# Altium footprint library Analog Devices Operational Amplifiers.PcbLib: 122 footprints (part 4 of 8)
Each footprint in its own frame and in the unit in brackets; x right, y up, seen from the top. Pads: shape width x height; smd on the part's side, far side on the other; paste and mask are expansions set on the pad; w line width, h text height; cw(c..) or ccw(c..) is an arc to the next point about the centre after c.
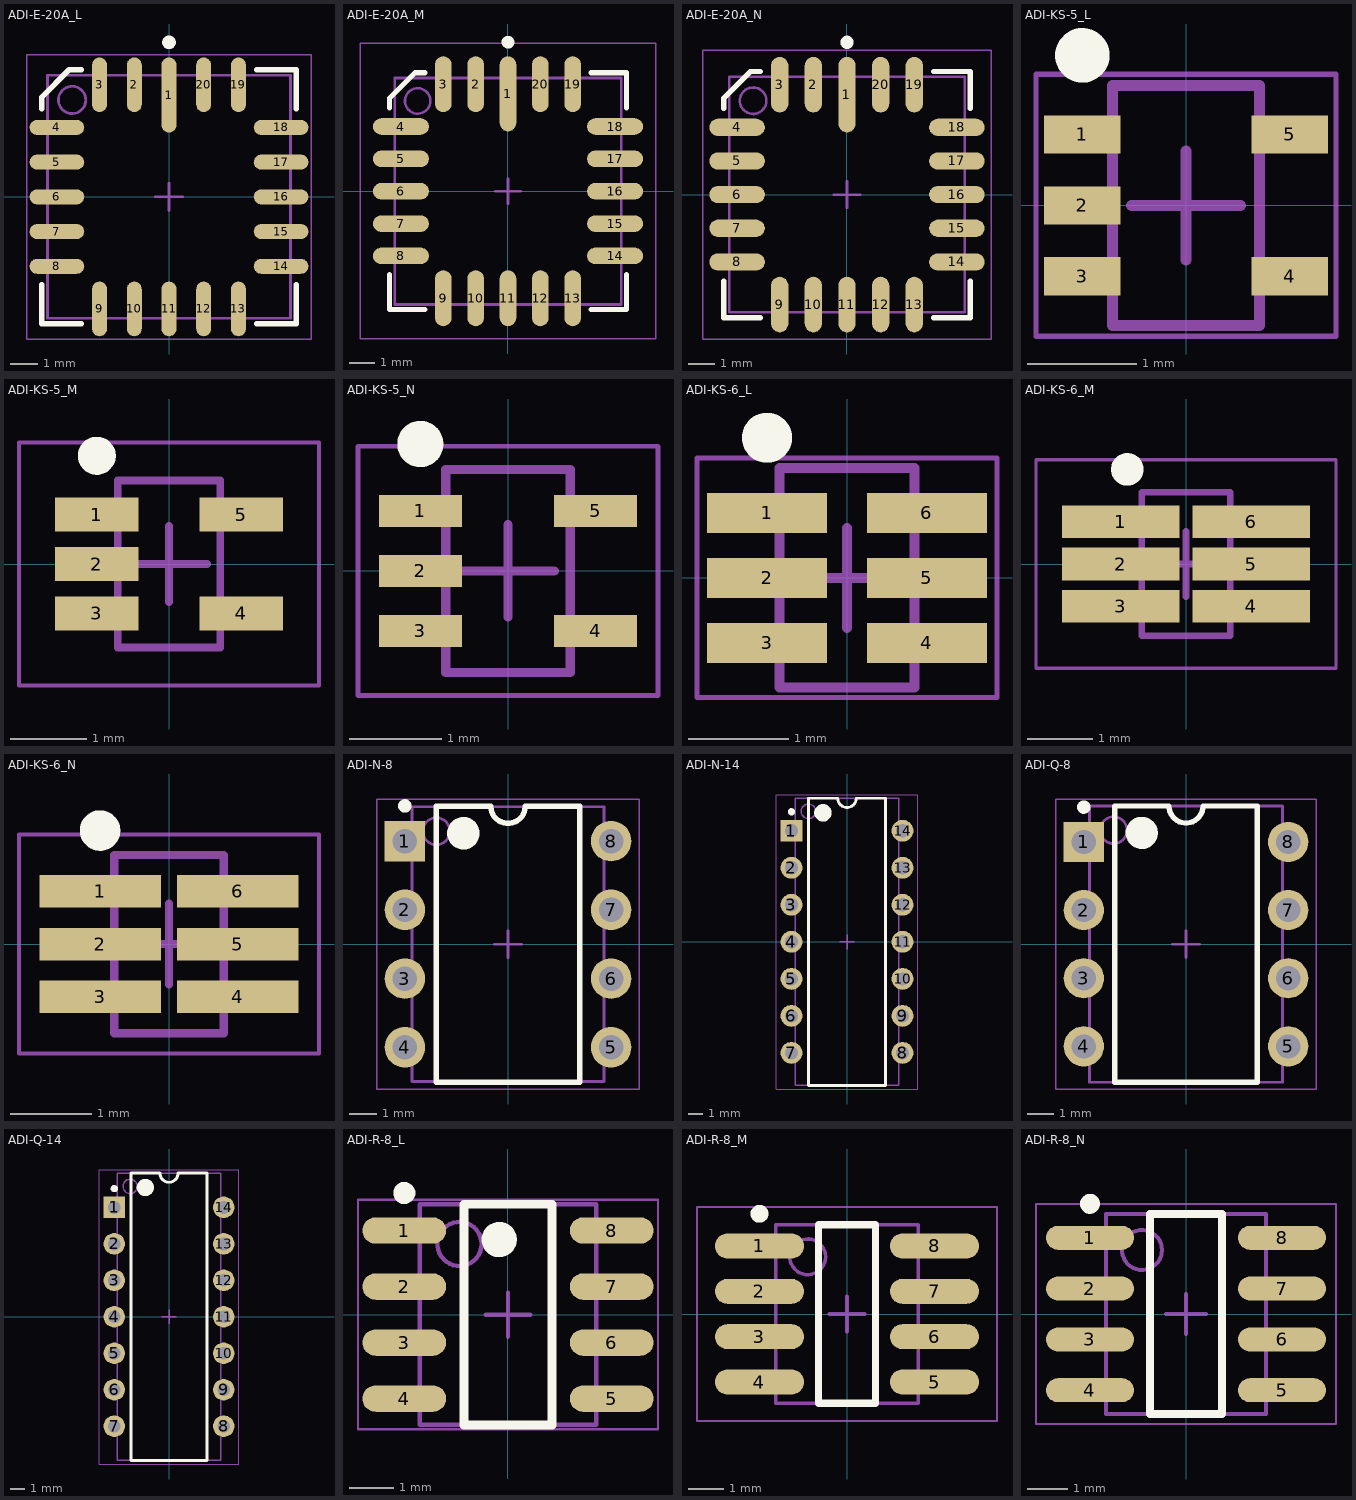
[diagram p3: the footprints below, top view; thin cyan lines are the x and y axes]

## ADI-E-20A_L [mm] "LCC, 20-Leads, Body 8.9x8.9mm, Pitch 1.27mm, IPC High Density"
height 2.54
pads (20):
  oval 0.55x2.75 smd: 1(0,3.725)
  oval 0.55x2 smd: 2(-1.27,4.1) 3(-2.54,4.1) 9(-2.54,-4.1) 10(-1.27,-4.1) 11(0,-4.1) 12(1.27,-4.1) 13(2.54,-4.1) 19(2.54,4.1) 20(1.27,4.1)
  oval 2x0.55 smd: 4(-4.1,2.54) 5(-4.1,1.27) 6(-4.1,0) 7(-4.1,-1.27) 8(-4.1,-2.54) 14(4.1,-2.54) 15(4.1,-1.27) 16(4.1,0) 17(4.1,1.27) 18(4.1,2.54)
Top Overlay:
  circle w0.25: c0,5.65 r0.125
  lines w0.2: -4.65,-3.215 -4.65,-4.65 -3.215,-4.65 ; -4.65,3.215 -4.65,3.65 -3.65,4.65 -3.215,4.65 ; 3.215,-4.65 4.65,-4.65 4.65,-3.215 ; 3.215,4.65 4.65,4.65 4.65,3.215
Mechanical 13:
  circle w0.1: c-3.545,3.545 r0.5
  lines w0.1: -4.445,-4.445 -4.445,4.445 4.445,4.445 4.445,-4.445 -4.445,-4.445
Mechanical 15:
  lines w0.05: -5.2,-5.2 -5.2,5.2 5.2,5.2 5.2,-5.2 -5.2,-5.2
  lines w0.1: -0.5,0 0.5,0 ; 0,-0.5 0,0.5
3D body: height 2.54, standoff 0, extent -4.445,-4.445 4.445,4.445

## ADI-E-20A_M [mm] "LCC, 20-Leads, Body 8.9x8.9mm, Pitch 1.27mm, IPC Low Density"
height 2.54
pads (20):
  oval 0.65x2.95 smd: 1(0,3.825)
  oval 0.65x2.2 smd: 2(-1.27,4.2) 3(-2.54,4.2) 9(-2.54,-4.2) 10(-1.27,-4.2) 11(0,-4.2) 12(1.27,-4.2) 13(2.54,-4.2) 19(2.54,4.2) 20(1.27,4.2)
  oval 2.2x0.65 smd: 4(-4.2,2.54) 5(-4.2,1.27) 6(-4.2,0) 7(-4.2,-1.27) 8(-4.2,-2.54) 14(4.2,-2.54) 15(4.2,-1.27) 16(4.2,0) 17(4.2,1.27) 18(4.2,2.54)
Top Overlay:
  circle w0.25: c0,5.85 r0.125
  lines w0.2: -4.65,-3.265 -4.65,-4.65 -3.265,-4.65 ; -4.65,3.265 -4.65,3.65 -3.65,4.65 -3.265,4.65 ; 3.265,-4.65 4.65,-4.65 4.65,-3.265 ; 3.265,4.65 4.65,4.65 4.65,3.265
Mechanical 13:
  circle w0.1: c-3.545,3.545 r0.5
  lines w0.1: -4.445,-4.445 4.445,-4.445 4.445,4.445 -4.445,4.445 -4.445,-4.445
Mechanical 15:
  lines w0.05: -5.8,-5.8 5.8,-5.8 5.8,5.8 -5.8,5.8 -5.8,-5.8
  lines w0.1: -0.5,0 0.5,0 ; 0,-0.5 0,0.5
3D body: height 2.54, standoff 0, extent -4.445,-4.445 4.445,4.445

## ADI-E-20A_N [mm] "LCC, 20-Leads, Body 8.9x8.9mm, Pitch 1.27mm, IPC Medium Density"
height 2.54
pads (20):
  oval 0.65x2.85 smd: 1(0,3.775)
  oval 0.65x2.1 smd: 2(-1.27,4.15) 3(-2.54,4.15) 9(-2.54,-4.15) 10(-1.27,-4.15) 11(0,-4.15) 12(1.27,-4.15) 13(2.54,-4.15) 19(2.54,4.15) 20(1.27,4.15)
  oval 2.1x0.65 smd: 4(-4.15,2.54) 5(-4.15,1.27) 6(-4.15,0) 7(-4.15,-1.27) 8(-4.15,-2.54) 14(4.15,-2.54) 15(4.15,-1.27) 16(4.15,0) 17(4.15,1.27) 18(4.15,2.54)
Top Overlay:
  circle w0.25: c0,5.75 r0.125
  lines w0.2: -4.65,-3.265 -4.65,-4.65 -3.265,-4.65 ; -4.65,3.265 -4.65,3.65 -3.65,4.65 -3.265,4.65 ; 3.265,-4.65 4.65,-4.65 4.65,-3.265 ; 3.265,4.65 4.65,4.65 4.65,3.265
Mechanical 13:
  circle w0.1: c-3.545,3.545 r0.5
  lines w0.1: -4.445,-4.445 4.445,-4.445 4.445,4.445 -4.445,4.445 -4.445,-4.445
Mechanical 15:
  lines w0.05: -5.45,-5.45 5.45,-5.45 5.45,5.45 -5.45,5.45 -5.45,-5.45
  lines w0.1: -0.5,0 0.5,0 ; 0,-0.5 0,0.5
3D body: height 2.54, standoff 0, extent -4.445,-4.445 4.445,4.445

## ADI-KS-5_L [mm] "SOT23, 5-Leads, Body 2x1.25mm, Pitch 0.65mm, IPC High Density"
height 1.1
pads (5):
  rect 0.7x0.35 smd: 1(-0.95,0.65) 2(-0.95,0) 3(-0.95,-0.65) 4(0.95,-0.65) 5(0.95,0.65)
Top Overlay:
  circle w0.25: c-0.95,1.375 r0.125
Mechanical 13:
  lines w0.1: -0.675,-1.1 -0.675,1.1 0.675,1.1 0.675,-1.1 -0.675,-1.1
Mechanical 15:
  lines w0.05: -1.375,-1.2 -1.375,1.2 1.375,1.2 1.375,-1.2 -1.375,-1.2
  lines w0.1: -0.5,0 0.5,0 ; 0,-0.5 0,0.5
3D body: height 1.1, standoff 0.1, extent -0.675,-1.1 0.675,1.1

## ADI-KS-5_M [mm] "SOT23, 5-Leads, Body 2x1.25mm, Pitch 0.65mm, IPC Low Density"
height 1.1
pads (5):
  rect 1.1x0.45 smd: 1(-0.95,0.65) 2(-0.95,0) 3(-0.95,-0.65) 4(0.95,-0.65) 5(0.95,0.65)
Top Overlay:
  circle w0.25: c-0.95,1.425 r0.125
Mechanical 13:
  lines w0.1: -0.675,-1.1 -0.675,1.1 0.675,1.1 0.675,-1.1 -0.675,-1.1
Mechanical 15:
  lines w0.05: -1.975,-1.6 -1.975,1.6 1.975,1.6 1.975,-1.6 -1.975,-1.6
  lines w0.1: -0.5,0 0.5,0 ; 0,-0.5 0,0.5
3D body: height 1.1, standoff 0.1, extent -0.675,-1.1 0.675,1.1

## ADI-KS-5_N [mm] "SOT23, 5-Leads, Body 2x1.25mm, Pitch 0.65mm, IPC Medium Density"
height 1.1
pads (5):
  rect 0.9x0.35 smd: 1(-0.95,0.65) 2(-0.95,0) 3(-0.95,-0.65) 4(0.95,-0.65) 5(0.95,0.65)
Top Overlay:
  circle w0.25: c-0.95,1.375 r0.125
Mechanical 13:
  lines w0.1: -0.675,-1.1 -0.675,1.1 0.675,1.1 0.675,-1.1 -0.675,-1.1
Mechanical 15:
  lines w0.05: -1.625,-1.35 -1.625,1.35 1.625,1.35 1.625,-1.35 -1.625,-1.35
  lines w0.1: -0.5,0 0.5,0 ; 0,-0.5 0,0.5
3D body: height 1.1, standoff 0.1, extent -0.675,-1.1 0.675,1.1

## ADI-KS-6_L [mm] "SOT23, 6-Leads, Body 2x1.25mm, Pitch 0.65mm, IPC High Density"
height 1.1
pads (6):
  rect 1.2x0.4 smd: 1(-0.8,0.65) 2(-0.8,0) 3(-0.8,-0.65) 4(0.8,-0.65) 5(0.8,0) 6(0.8,0.65)
Top Overlay:
  circle w0.25: c-0.8,1.4 r0.125
Mechanical 13:
  lines w0.1: -0.675,-1.1 -0.675,1.1 0.675,1.1 0.675,-1.1 -0.675,-1.1
Mechanical 15:
  lines w0.05: -1.5,-1.2 -1.5,1.2 1.5,1.2 1.5,-1.2 -1.5,-1.2
  lines w0.1: -0.5,0 0.5,0 ; 0,-0.5 0,0.5
3D body: height 1.1, standoff 0.1, extent -0.675,-1.1 0.675,1.1

## ADI-KS-6_M [mm] "SOT23, 6-Leads, Body 2x1.25mm, Pitch 0.65mm, IPC Low Density"
height 1.1
pads (6):
  rect 1.8x0.5 smd: 1(-1,0.65) 2(-1,0) 3(-1,-0.65) 4(1,-0.65) 5(1,0) 6(1,0.65)
Top Overlay:
  circle w0.25: c-0.9,1.45 r0.125
Mechanical 13:
  lines w0.1: -0.675,-1.1 0.675,-1.1 0.675,1.1 -0.675,1.1 -0.675,-1.1
Mechanical 15:
  lines w0.05: -2.3,-1.6 2.3,-1.6 2.3,1.6 -2.3,1.6 -2.3,-1.6
  lines w0.1: -0.5,0 0.5,0 ; 0,-0.5 0,0.5
3D body: height 1.1, standoff 0.1, extent -0.675,-1.1 0.675,1.1

## ADI-KS-6_N [mm] "SOT23, 6-Leads, Body 2x1.25mm, Pitch 0.65mm, IPC Medium Density"
height 1.1
pads (6):
  rect 1.5x0.4 smd: 1(-0.85,0.65) 2(-0.85,0) 3(-0.85,-0.65) 4(0.85,-0.65) 5(0.85,0) 6(0.85,0.65)
Top Overlay:
  circle w0.25: c-0.85,1.4 r0.125
Mechanical 13:
  lines w0.1: -0.675,-1.1 0.675,-1.1 0.675,1.1 -0.675,1.1 -0.675,-1.1
Mechanical 15:
  lines w0.05: -1.85,-1.35 1.85,-1.35 1.85,1.35 -1.85,1.35 -1.85,-1.35
  lines w0.1: -0.5,0 0.5,0 ; 0,-0.5 0,0.5
3D body: height 1.1, standoff 0.1, extent -0.675,-1.1 0.675,1.1

## ADI-N-8 [mm] "DIP, 8-Leads, Body 9.59x6.6mm, Pitch 2.54mm"
height 5.33
pads (8):
  rect 1.5x1.5 hole 0.9: 1(-3.81,3.81)
  round 1.5 hole 0.9: 2(-3.81,1.27) 3(-3.81,-1.27) 4(-3.81,-3.81) 5(3.81,-3.81) 6(3.81,-1.27) 7(3.81,1.27) 8(3.81,3.81)
Top Overlay:
  circle w0.25: c-3.81,5.11 r0.125
  circle w0.6: c-1.65,4.1 r0.3
  lines w0.2: -2.65,-5.1 -2.65,5.1 -0.635,5.1 ccw(c0,5.1) 0.635,5.1 2.65,5.1 2.65,-5.1 -2.65,-5.1
Mechanical 13:
  circle w0.1: c-2.65,4.175 r0.5
  lines w0.1: -3.55,-5.075 -3.55,5.075 3.55,5.075 3.55,-5.075 -3.55,-5.075
Mechanical 15:
  lines w0.05: -4.85,-5.35 -4.85,5.35 4.85,5.35 4.85,-5.35 -4.85,-5.35
  lines w0.1: -0.5,0 0.5,0 ; 0,-0.5 0,0.5
3D body: height 2.72, standoff 0, extent -3.945,3.31 -3.675,4.31
3D body: height 2.99, standoff 2.72, extent -3.945,3.31 -3.55,4.31
3D body: height 0, standoff -1.6, extent -3.945,3.45 -3.675,4.17
3D body: height 2.72, standoff 0, extent -3.945,0.77 -3.675,1.77
3D body: height 2.99, standoff 2.72, extent -3.945,0.77 -3.55,1.77
3D body: height 0, standoff -1.6, extent -3.945,0.91 -3.675,1.63
3D body: height 2.72, standoff 0, extent -3.945,-1.77 -3.675,-0.77
3D body: height 2.99, standoff 2.72, extent -3.945,-1.77 -3.55,-0.77
3D body: height 0, standoff -1.6, extent -3.945,-1.63 -3.675,-0.91
3D body: height 2.72, standoff 0, extent -3.945,-4.31 -3.675,-3.31
3D body: height 2.99, standoff 2.72, extent -3.945,-4.31 -3.55,-3.31
3D body: height 0, standoff -1.6, extent -3.945,-4.17 -3.675,-3.45
3D body: height 2.72, standoff 0, extent 3.675,-4.31 3.945,-3.31
3D body: height 2.99, standoff 2.72, extent 3.55,-4.31 3.945,-3.31
3D body: height 0, standoff -1.6, extent 3.675,-4.17 3.945,-3.45
3D body: height 2.72, standoff 0, extent 3.675,-1.77 3.945,-0.77
3D body: height 2.99, standoff 2.72, extent 3.55,-1.77 3.945,-0.77
3D body: height 0, standoff -1.6, extent 3.675,-1.63 3.945,-0.91
3D body: height 2.72, standoff 0, extent 3.675,0.77 3.945,1.77
3D body: height 2.99, standoff 2.72, extent 3.55,0.77 3.945,1.77
3D body: height 0, standoff -1.6, extent 3.675,0.91 3.945,1.63
3D body: height 2.72, standoff 0, extent 3.675,3.31 3.945,4.31
3D body: height 2.99, standoff 2.72, extent 3.55,3.31 3.945,4.31
3D body: height 0, standoff -1.6, extent 3.675,3.45 3.945,4.17
3D body: height 5.33, standoff 0.38, extent -3.55,-5.075 3.55,5.075

## ADI-N-14 [mm] "DIP, 14-Leads, Body 19.18x6.605mm, Pitch 2.54mm"
height 5.33
pads (14):
  rect 1.5x1.5 hole 0.9: 1(-3.81,7.62)
  round 1.5 hole 0.9: 2(-3.81,5.08) 3(-3.81,2.54) 4(-3.81,0) 5(-3.81,-2.54) 6(-3.81,-5.08) 7(-3.81,-7.62) 8(3.81,-7.62) 9(3.81,-5.08) 10(3.81,-2.54) 11(3.81,0) 12(3.81,2.54) 13(3.81,5.08) 14(3.81,7.62)
Top Overlay:
  circle w0.25: c-3.81,8.92 r0.125
  circle w0.6: c-1.65,8.85 r0.3
  lines w0.2: -2.65,-9.85 -2.65,9.85 -0.635,9.85 ccw(c0,9.85) 0.635,9.85 2.65,9.85 2.65,-9.85 -2.65,-9.85
Mechanical 13:
  circle w0.1: c-2.65,8.95 r0.5
  lines w0.1: -3.55,-9.85 -3.55,9.85 3.55,9.85 3.55,-9.85 -3.55,-9.85
Mechanical 15:
  lines w0.05: -4.85,-10.1 -4.85,10.1 4.85,10.1 4.85,-10.1 -4.85,-10.1
  lines w0.1: -0.5,0 0.5,0 ; 0,-0.5 0,0.5
3D body: height 2.72, standoff 0, extent -3.945,7.12 -3.675,8.12
3D body: height 2.99, standoff 2.72, extent -3.945,7.12 -3.55,8.12
3D body: height 0, standoff -1.6, extent -3.945,7.26 -3.675,7.98
3D body: height 2.72, standoff 0, extent -3.945,4.58 -3.675,5.58
3D body: height 2.99, standoff 2.72, extent -3.945,4.58 -3.55,5.58
3D body: height 0, standoff -1.6, extent -3.945,4.72 -3.675,5.44
3D body: height 2.72, standoff 0, extent -3.945,2.04 -3.675,3.04
3D body: height 2.99, standoff 2.72, extent -3.945,2.04 -3.55,3.04
3D body: height 0, standoff -1.6, extent -3.945,2.18 -3.675,2.9
3D body: height 2.72, standoff 0, extent -3.945,-0.5 -3.675,0.5
3D body: height 2.99, standoff 2.72, extent -3.945,-0.5 -3.55,0.5
3D body: height 0, standoff -1.6, extent -3.945,-0.36 -3.675,0.36
3D body: height 2.72, standoff 0, extent -3.945,-3.04 -3.675,-2.04
3D body: height 2.99, standoff 2.72, extent -3.945,-3.04 -3.55,-2.04
3D body: height 0, standoff -1.6, extent -3.945,-2.9 -3.675,-2.18
3D body: height 2.72, standoff 0, extent -3.945,-5.58 -3.675,-4.58
3D body: height 2.99, standoff 2.72, extent -3.945,-5.58 -3.55,-4.58
3D body: height 0, standoff -1.6, extent -3.945,-5.44 -3.675,-4.72
3D body: height 2.72, standoff 0, extent -3.945,-8.12 -3.675,-7.12
3D body: height 2.99, standoff 2.72, extent -3.945,-8.12 -3.55,-7.12
3D body: height 0, standoff -1.6, extent -3.945,-7.98 -3.675,-7.26
3D body: height 2.72, standoff 0, extent 3.675,-8.12 3.945,-7.12
3D body: height 2.99, standoff 2.72, extent 3.55,-8.12 3.945,-7.12
3D body: height 0, standoff -1.6, extent 3.675,-7.98 3.945,-7.26
3D body: height 2.72, standoff 0, extent 3.675,-5.58 3.945,-4.58
3D body: height 2.99, standoff 2.72, extent 3.55,-5.58 3.945,-4.58
3D body: height 0, standoff -1.6, extent 3.675,-5.44 3.945,-4.72
3D body: height 2.72, standoff 0, extent 3.675,-3.04 3.945,-2.04
3D body: height 2.99, standoff 2.72, extent 3.55,-3.04 3.945,-2.04
3D body: height 0, standoff -1.6, extent 3.675,-2.9 3.945,-2.18
3D body: height 2.72, standoff 0, extent 3.675,-0.5 3.945,0.5
3D body: height 2.99, standoff 2.72, extent 3.55,-0.5 3.945,0.5
3D body: height 0, standoff -1.6, extent 3.675,-0.36 3.945,0.36
3D body: height 2.72, standoff 0, extent 3.675,2.04 3.945,3.04
3D body: height 2.99, standoff 2.72, extent 3.55,2.04 3.945,3.04
3D body: height 0, standoff -1.6, extent 3.675,2.18 3.945,2.9
3D body: height 2.72, standoff 0, extent 3.675,4.58 3.945,5.58
3D body: height 2.99, standoff 2.72, extent 3.55,4.58 3.945,5.58
3D body: height 0, standoff -1.6, extent 3.675,4.72 3.945,5.44
3D body: height 2.72, standoff 0, extent 3.675,7.12 3.945,8.12
3D body: height 2.99, standoff 2.72, extent 3.55,7.12 3.945,8.12
3D body: height 0, standoff -1.6, extent 3.675,7.26 3.945,7.98
3D body: height 5.33, standoff 0.38, extent -3.55,-9.85 3.55,9.85

## ADI-Q-8 [mm] "DIP, 8-Leads, Body 10.29x6.73mm, Pitch 2.54mm"
height 5.08
pads (8):
  rect 1.5x1.5 hole 0.9: 1(-3.81,3.81)
  round 1.5 hole 0.9: 2(-3.81,1.27) 3(-3.81,-1.27) 4(-3.81,-3.81) 5(3.81,-3.81) 6(3.81,-1.27) 7(3.81,1.27) 8(3.81,3.81)
Top Overlay:
  circle w0.25: c-3.81,5.11 r0.125
  circle w0.6: c-1.65,4.15 r0.3
  lines w0.2: -2.65,-5.15 -2.65,5.15 -0.635,5.15 ccw(c0,5.15) 0.635,5.15 2.65,5.15 2.65,-5.15 -2.65,-5.15
Mechanical 13:
  circle w0.1: c-2.7,4.25 r0.5
  lines w0.1: -3.6,-5.15 -3.6,5.15 3.6,5.15 3.6,-5.15 -3.6,-5.15
Mechanical 15:
  lines w0.05: -4.85,-5.4 -4.85,5.4 4.85,5.4 4.85,-5.4 -4.85,-5.4
  lines w0.1: -0.5,0 0.5,0 ; 0,-0.5 0,0.5
3D body: height 2.6, standoff 0, extent -3.945,3.31 -3.675,4.31
3D body: height 2.87, standoff 2.6, extent -3.945,3.31 -3.6,4.31
3D body: height 0, standoff -1.6, extent -3.945,3.45 -3.675,4.17
3D body: height 2.6, standoff 0, extent -3.945,0.77 -3.675,1.77
3D body: height 2.87, standoff 2.6, extent -3.945,0.77 -3.6,1.77
3D body: height 0, standoff -1.6, extent -3.945,0.91 -3.675,1.63
3D body: height 2.6, standoff 0, extent -3.945,-1.77 -3.675,-0.77
3D body: height 2.87, standoff 2.6, extent -3.945,-1.77 -3.6,-0.77
3D body: height 0, standoff -1.6, extent -3.945,-1.63 -3.675,-0.91
3D body: height 2.6, standoff 0, extent -3.945,-4.31 -3.675,-3.31
3D body: height 2.87, standoff 2.6, extent -3.945,-4.31 -3.6,-3.31
3D body: height 0, standoff -1.6, extent -3.945,-4.17 -3.675,-3.45
3D body: height 2.6, standoff 0, extent 3.675,-4.31 3.945,-3.31
3D body: height 2.87, standoff 2.6, extent 3.6,-4.31 3.945,-3.31
3D body: height 0, standoff -1.6, extent 3.675,-4.17 3.945,-3.45
3D body: height 2.6, standoff 0, extent 3.675,-1.77 3.945,-0.77
3D body: height 2.87, standoff 2.6, extent 3.6,-1.77 3.945,-0.77
3D body: height 0, standoff -1.6, extent 3.675,-1.63 3.945,-0.91
3D body: height 2.6, standoff 0, extent 3.675,0.77 3.945,1.77
3D body: height 2.87, standoff 2.6, extent 3.6,0.77 3.945,1.77
3D body: height 0, standoff -1.6, extent 3.675,0.91 3.945,1.63
3D body: height 2.6, standoff 0, extent 3.675,3.31 3.945,4.31
3D body: height 2.87, standoff 2.6, extent 3.6,3.31 3.945,4.31
3D body: height 0, standoff -1.6, extent 3.675,3.45 3.945,4.17
3D body: height 5.08, standoff 0.38, extent -3.6,-5.15 3.6,5.15

## ADI-Q-14 [mm] "DIP, 14-Leads, Body 19.94x6.73mm, Pitch 2.54mm"
height 5.08
pads (14):
  rect 1.5x1.5 hole 0.9: 1(-3.81,7.62)
  round 1.5 hole 0.9: 2(-3.81,5.08) 3(-3.81,2.54) 4(-3.81,0) 5(-3.81,-2.54) 6(-3.81,-5.08) 7(-3.81,-7.62) 8(3.81,-7.62) 9(3.81,-5.08) 10(3.81,-2.54) 11(3.81,0) 12(3.81,2.54) 13(3.81,5.08) 14(3.81,7.62)
Top Overlay:
  circle w0.25: c-3.81,8.92 r0.125
  circle w0.6: c-1.65,9 r0.3
  lines w0.2: -2.65,-10 -2.65,10 -0.635,10 ccw(c0,10) 0.635,10 2.65,10 2.65,-10 -2.65,-10
Mechanical 13:
  circle w0.1: c-2.7,9.075 r0.5
  lines w0.1: -3.6,-9.975 -3.6,9.975 3.6,9.975 3.6,-9.975 -3.6,-9.975
Mechanical 15:
  lines w0.05: -4.85,-10.25 -4.85,10.25 4.85,10.25 4.85,-10.25 -4.85,-10.25
  lines w0.1: -0.5,0 0.5,0 ; 0,-0.5 0,0.5
3D body: height 2.6, standoff 0, extent -3.945,7.12 -3.675,8.12
3D body: height 2.87, standoff 2.6, extent -3.945,7.12 -3.6,8.12
3D body: height 0, standoff -1.6, extent -3.945,7.26 -3.675,7.98
3D body: height 2.6, standoff 0, extent -3.945,4.58 -3.675,5.58
3D body: height 2.87, standoff 2.6, extent -3.945,4.58 -3.6,5.58
3D body: height 0, standoff -1.6, extent -3.945,4.72 -3.675,5.44
3D body: height 2.6, standoff 0, extent -3.945,2.04 -3.675,3.04
3D body: height 2.87, standoff 2.6, extent -3.945,2.04 -3.6,3.04
3D body: height 0, standoff -1.6, extent -3.945,2.18 -3.675,2.9
3D body: height 2.6, standoff 0, extent -3.945,-0.5 -3.675,0.5
3D body: height 2.87, standoff 2.6, extent -3.945,-0.5 -3.6,0.5
3D body: height 0, standoff -1.6, extent -3.945,-0.36 -3.675,0.36
3D body: height 2.6, standoff 0, extent -3.945,-3.04 -3.675,-2.04
3D body: height 2.87, standoff 2.6, extent -3.945,-3.04 -3.6,-2.04
3D body: height 0, standoff -1.6, extent -3.945,-2.9 -3.675,-2.18
3D body: height 2.6, standoff 0, extent -3.945,-5.58 -3.675,-4.58
3D body: height 2.87, standoff 2.6, extent -3.945,-5.58 -3.6,-4.58
3D body: height 0, standoff -1.6, extent -3.945,-5.44 -3.675,-4.72
3D body: height 2.6, standoff 0, extent -3.945,-8.12 -3.675,-7.12
3D body: height 2.87, standoff 2.6, extent -3.945,-8.12 -3.6,-7.12
3D body: height 0, standoff -1.6, extent -3.945,-7.98 -3.675,-7.26
3D body: height 2.6, standoff 0, extent 3.675,-8.12 3.945,-7.12
3D body: height 2.87, standoff 2.6, extent 3.6,-8.12 3.945,-7.12
3D body: height 0, standoff -1.6, extent 3.675,-7.98 3.945,-7.26
3D body: height 2.6, standoff 0, extent 3.675,-5.58 3.945,-4.58
3D body: height 2.87, standoff 2.6, extent 3.6,-5.58 3.945,-4.58
3D body: height 0, standoff -1.6, extent 3.675,-5.44 3.945,-4.72
3D body: height 2.6, standoff 0, extent 3.675,-3.04 3.945,-2.04
3D body: height 2.87, standoff 2.6, extent 3.6,-3.04 3.945,-2.04
3D body: height 0, standoff -1.6, extent 3.675,-2.9 3.945,-2.18
3D body: height 2.6, standoff 0, extent 3.675,-0.5 3.945,0.5
3D body: height 2.87, standoff 2.6, extent 3.6,-0.5 3.945,0.5
3D body: height 0, standoff -1.6, extent 3.675,-0.36 3.945,0.36
3D body: height 2.6, standoff 0, extent 3.675,2.04 3.945,3.04
3D body: height 2.87, standoff 2.6, extent 3.6,2.04 3.945,3.04
3D body: height 0, standoff -1.6, extent 3.675,2.18 3.945,2.9
3D body: height 2.6, standoff 0, extent 3.675,4.58 3.945,5.58
3D body: height 2.87, standoff 2.6, extent 3.6,4.58 3.945,5.58
3D body: height 0, standoff -1.6, extent 3.675,4.72 3.945,5.44
3D body: height 2.6, standoff 0, extent 3.675,7.12 3.945,8.12
3D body: height 2.87, standoff 2.6, extent 3.6,7.12 3.945,8.12
3D body: height 0, standoff -1.6, extent 3.675,7.26 3.945,7.98
3D body: height 5.08, standoff 0.38, extent -3.6,-9.975 3.6,9.975

## ADI-R-8_L [mm] "SOIC, 8-Leads, Body 4.9x3.9mm, Pitch 1.27mm, IPC High Density"
height 1.75
pads (8):
  oval 1.9x0.6 smd: 1(-2.35,1.905) 2(-2.35,0.635) 3(-2.35,-0.635) 4(-2.35,-1.905) 5(2.35,-1.905) 6(2.35,-0.635) 7(2.35,0.635) 8(2.35,1.905)
Top Overlay:
  circle w0.25: c-2.35,2.755 r0.125
  circle w0.4: c-0.2,1.7 r0.2
  lines w0.2: -1,-2.5 -1,2.5 1,2.5 1,-2.5 -1,-2.5
Mechanical 13:
  circle w0.1: c-1.1,1.6 r0.5
  lines w0.1: -2,-2.5 -2,2.5 2,2.5 2,-2.5 -2,-2.5
Mechanical 15:
  lines w0.05: -3.4,-2.6 -3.4,2.6 3.4,2.6 3.4,-2.6 -3.4,-2.6
  lines w0.1: -0.5,0 0.5,0 ; 0,-0.5 0,0.5
3D body: height 1.75, standoff 0.1, extent -2,-2.5 2,2.5

## ADI-R-8_M [mm] "SOIC, 8-Leads, Body 4.9x3.9mm, Pitch 1.27mm, IPC Low Density"
height 1.75
pads (8):
  oval 2.5x0.7 smd: 1(-2.45,1.905) 2(-2.45,0.635) 3(-2.45,-0.635) 4(-2.45,-1.905) 5(2.45,-1.905) 6(2.45,-0.635) 7(2.45,0.635) 8(2.45,1.905)
Top Overlay:
  circle w0.25: c-2.45,2.805 r0.125
  lines w0.2: -0.8,-2.5 -0.8,2.5 0.8,2.5 0.8,-2.5 -0.8,-2.5
Mechanical 13:
  circle w0.1: c-1.1,1.6 r0.5
  lines w0.1: -2,-2.5 -2,2.5 2,2.5 2,-2.5 -2,-2.5
Mechanical 15:
  lines w0.05: -4.2,-3 -4.2,3 4.2,3 4.2,-3 -4.2,-3
  lines w0.1: -0.5,0 0.5,0 ; 0,-0.5 0,0.5
3D body: height 1.75, standoff 0.1, extent -2,-2.5 2,2.5

## ADI-R-8_N [mm] "SOIC, 8-Leads, Body 4.9x3.9mm, Pitch 1.27mm, IPC Medium Density"
height 1.75
pads (8):
  oval 2.2x0.6 smd: 1(-2.4,1.905) 2(-2.4,0.635) 3(-2.4,-0.635) 4(-2.4,-1.905) 5(2.4,-1.905) 6(2.4,-0.635) 7(2.4,0.635) 8(2.4,1.905)
Top Overlay:
  circle w0.25: c-2.4,2.755 r0.125
  lines w0.2: -0.9,-2.5 -0.9,2.5 0.9,2.5 0.9,-2.5 -0.9,-2.5
Mechanical 13:
  circle w0.1: c-1.1,1.6 r0.5
  lines w0.1: -2,-2.5 -2,2.5 2,2.5 2,-2.5 -2,-2.5
Mechanical 15:
  lines w0.05: -3.75,-2.75 -3.75,2.75 3.75,2.75 3.75,-2.75 -3.75,-2.75
  lines w0.1: -0.5,0 0.5,0 ; 0,-0.5 0,0.5
3D body: height 1.75, standoff 0.1, extent -2,-2.5 2,2.5